# Altium footprint library Converter_DCDC.PcbLib: 115 footprints (part 5 of 8)
Each footprint in its own frame and in the unit in brackets; x right, y up, seen from the top. Pads: shape width x height; smd on the part's side, far side on the other; paste and mask are expansions set on the pad; w line width, h text height; cw(c..) or ccw(c..) is an arc to the next point about the centre after c.
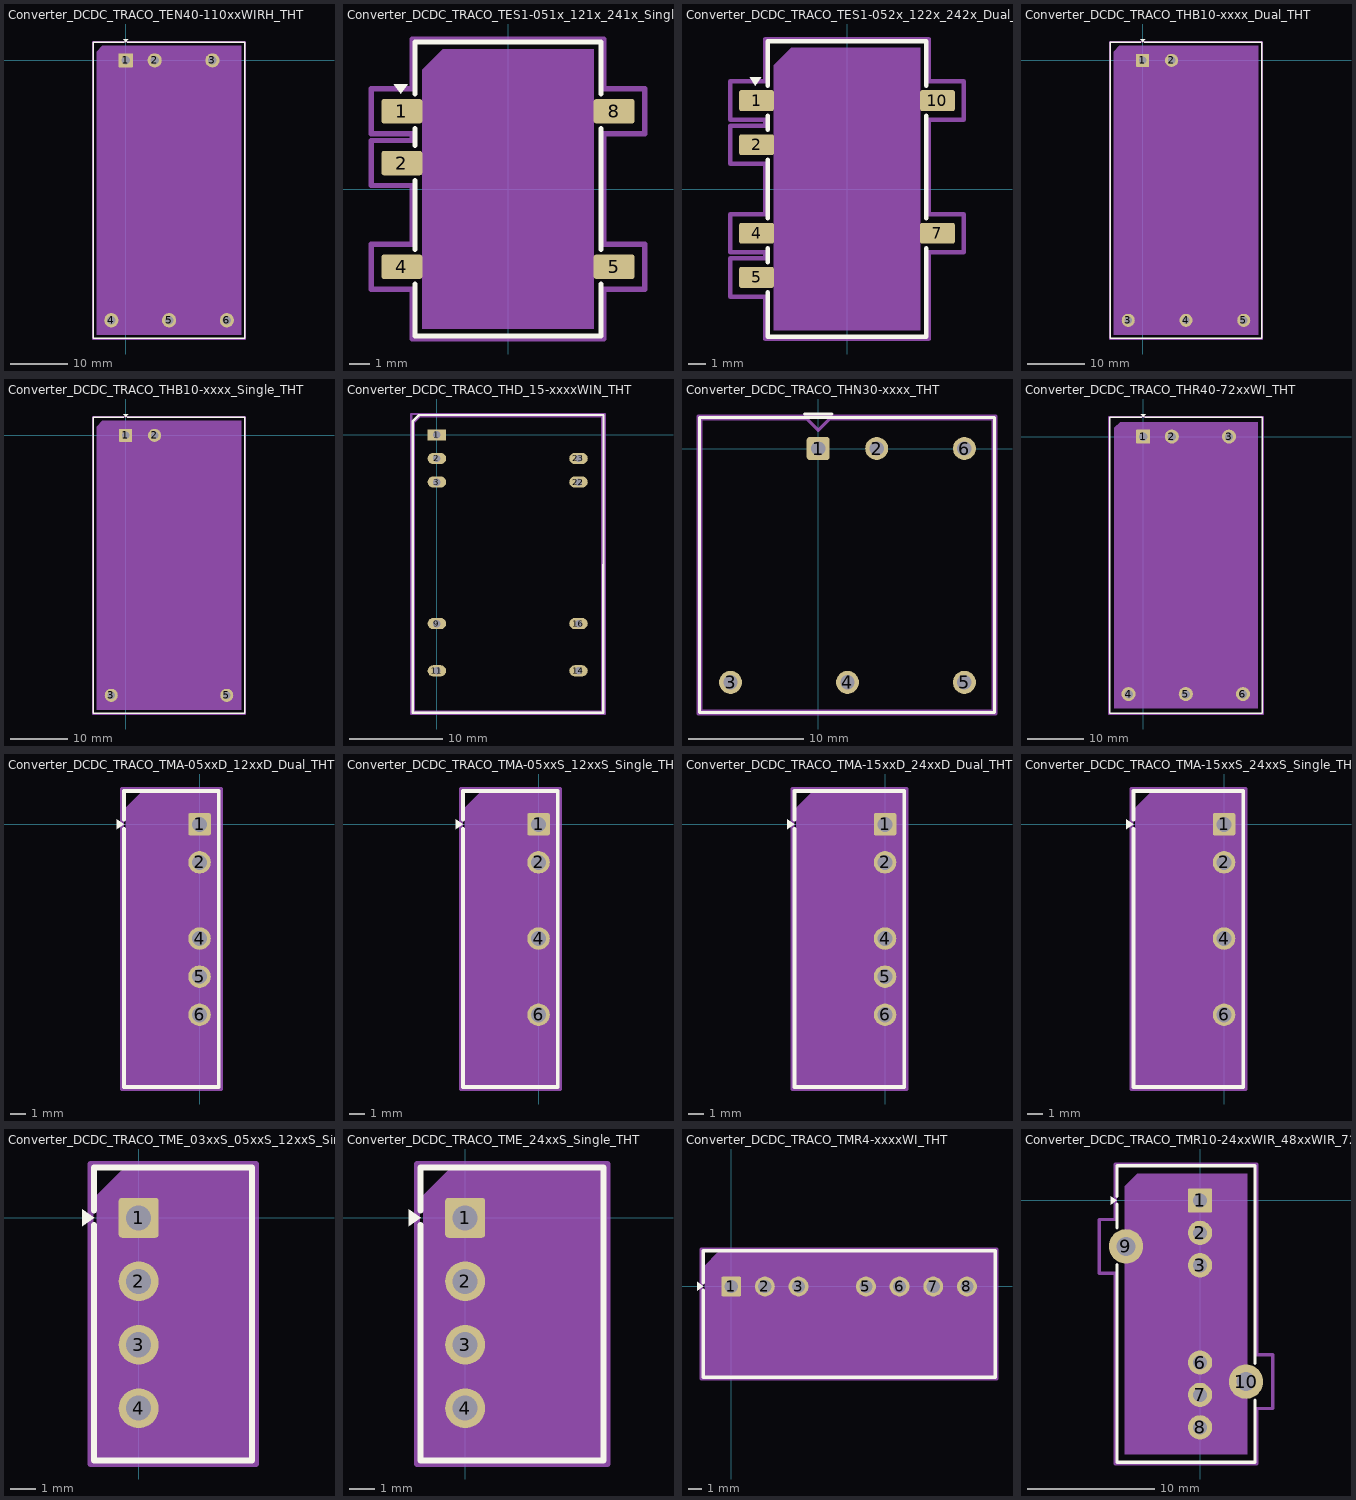
[diagram p4: the footprints below, top view; thin cyan lines are the x and y axes]

## Converter_DCDC_TRACO_TEN40-110xxWIRH_THT [mm]
pads (6):
  rrect10% 2.5x2.5 hole 1.5: 1(0,0)
  round 2.5 hole 1.5: 2(5.08,0) 3(15.24,0) 4(-2.54,-45.72) 5(7.62,-45.72) 6(17.78,-45.72)
F.SilkS:
  region: 0,3.15 -0.44,3.76 0.44,3.76
  lines w0.254: -0.296,3.15 -5.71,3.15 -5.71,-48.87 20.91,-48.87 20.91,3.15 0.296,3.15
Top Assembly:
  region: 20.3,-48.26 -5.1,-48.26 -5.1,1.54 -4.1,2.54 20.3,2.54
  text "'.Designator'" at 3.553,-23.7 h1
Top Courtyard:
  lines w0.254: -5.85,-49.01 21.05,-49.01 21.05,3.29 -5.85,3.29 -5.85,-49.01
Top Designator:
  text ".Designator" at -0.018,-23.196 h1.52

## Converter_DCDC_TRACO_TES1-051x_121x_241x_Single_SMD [mm]
pads (5):
  rrect21% 2x1.2 smd: 1(-5.2,3.81) 2(-5.2,1.27) 4(-5.2,-3.81) 5(5.2,-3.81) 8(5.2,3.81)
F.SilkS:
  region: -5.26,4.67 -5.6,5.14 -4.92,5.14
  lines w0.254: -4.56,-4.67 -4.56,-7.21 4.56,-7.21 4.56,-4.67 ; -4.56,-2.95 -4.56,0.41 ; -4.56,2.13 -4.56,2.95 ; -4.56,4.67 -4.56,7.21 4.56,7.21 4.56,4.67 ; 4.56,-2.95 4.56,2.95
Top Assembly:
  region: 4.2,-6.85 -4.2,-6.85 -4.2,5.85 -3.2,6.85 4.2,6.85
  text "'.Designator'" at -4.047,-0.84 h1
Top Courtyard:
  lines w0.254: -6.7,-4.91 -4.7,-4.91 -4.7,-7.35 4.7,-7.35 4.7,-4.91 6.7,-4.91 6.7,-2.71 4.7,-2.71 4.7,2.71 6.7,2.71 6.7,4.91 4.7,4.91 4.7,7.35 -4.7,7.35 -4.7,4.91 -6.7,4.91 -6.7,2.71 -4.7,2.71 -4.7,2.37 -6.7,2.37 -6.7,0.17 -4.7,0.17 -4.7,-2.71 -6.7,-2.71 -6.7,-4.91
Top Designator:
  text ".Designator" at -7.618,-0.508 h1.52

## Converter_DCDC_TRACO_TES1-052x_122x_242x_Dual_SMD [mm]
pads (6):
  rrect21% 2x1.2 smd: 1(-5.2,5.08) 2(-5.2,2.54) 4(-5.2,-2.54) 5(-5.2,-5.08) 7(5.2,-2.54) 10(5.2,5.08)
F.SilkS:
  region: -5.26,5.94 -5.6,6.41 -4.92,6.41
  lines w0.254: -4.56,-5.94 -4.56,-8.48 4.56,-8.48 4.56,-3.4 ; -4.56,-4.22 -4.56,-3.4 ; -4.56,-1.68 -4.56,1.68 ; -4.56,3.4 -4.56,4.22 ; -4.56,5.94 -4.56,8.48 4.56,8.48 4.56,5.94 ; 4.56,-1.68 4.56,4.22
Top Assembly:
  region: 4.2,-8.12 -4.2,-8.12 -4.2,7.12 -3.2,8.12 4.2,8.12
  text "'.Designator'" at -4.047,-0.84 h1
Top Courtyard:
  lines w0.254: -6.7,-6.18 -4.7,-6.18 -4.7,-8.62 4.7,-8.62 4.7,-3.64 6.7,-3.64 6.7,-1.44 4.7,-1.44 4.7,3.98 6.7,3.98 6.7,6.18 4.7,6.18 4.7,8.62 -4.7,8.62 -4.7,6.18 -6.7,6.18 -6.7,3.98 -4.7,3.98 -4.7,3.64 -6.7,3.64 -6.7,1.44 -4.7,1.44 -4.7,-1.44 -6.7,-1.44 -6.7,-3.64 -4.7,-3.64 -4.7,-3.98 -6.7,-3.98 -6.7,-6.18
Top Designator:
  text ".Designator" at -7.618,-0.508 h1.52

## Converter_DCDC_TRACO_THB10-xxxx_Dual_THT [mm]
pads (5):
  rrect11% 2.3x2.3 hole 1.3: 1(0,0)
  round 2.3 hole 1.3: 2(5.08,0) 3(-2.54,-45.72) 4(7.62,-45.72) 5(17.78,-45.72)
F.SilkS:
  region: 0,3.15 -0.44,3.76 0.44,3.76
  lines w0.254: -0.296,3.15 -5.69,3.15 -5.69,-48.87 20.93,-48.87 20.93,3.15 0.296,3.15
Top Assembly:
  region: 20.32,-48.26 -5.08,-48.26 -5.08,1.54 -4.08,2.54 20.32,2.54
  text "'.Designator'" at 3.573,-23.7 h1
Top Courtyard:
  lines w0.254: -5.83,-49.01 21.07,-49.01 21.07,3.29 -5.83,3.29 -5.83,-49.01
Top Designator:
  text ".Designator" at 0.002,-23.196 h1.52

## Converter_DCDC_TRACO_THB10-xxxx_Single_THT [mm]
pads (4):
  rrect11% 2.3x2.3 hole 1.3: 1(0,0)
  round 2.3 hole 1.3: 2(5.08,0) 3(-2.54,-45.72) 5(17.78,-45.72)
F.SilkS:
  region: 0,3.15 -0.44,3.76 0.44,3.76
  lines w0.254: -0.296,3.15 -5.69,3.15 -5.69,-48.87 20.93,-48.87 20.93,3.15 0.296,3.15
Top Assembly:
  region: 20.32,-48.26 -5.08,-48.26 -5.08,1.54 -4.08,2.54 20.32,2.54
  text "'.Designator'" at 3.573,-23.7 h1
Top Courtyard:
  lines w0.254: -5.83,-49.01 21.07,-49.01 21.07,3.29 -5.83,3.29 -5.83,-49.01
Top Designator:
  text ".Designator" at 0.002,-23.196 h1.52

## Converter_DCDC_TRACO_THD_15-xxxxWIN_THT [mm]
pads (9):
  rect 2x1.2 hole 0.8: 1(0,0)
  rrect100% 2x1.2 hole 0.8: 2(0,-2.54) 3(0,-5.08) 9(0,-20.32) 11(0,-25.4) 14(15.24,-25.4) 16(15.24,-20.32) 22(15.24,-5.08) 23(15.24,-2.54)
F.SilkS:
  lines w0.254: -2.62,-29.92 17.92,-29.93 17.93,2.14 -1.92,2.13 -2.62,1.43 -2.62,-29.92
Top Assembly:
  lines w0.254: -2.5,-29.8 17.8,-29.8 17.8,2 -1.8,2 -2.5,1.3 -2.5,-29.8
  text "'.Designator'" at 3.953,-13.04 h1
Top Courtyard:
  lines w0.254: -2.75,-30.05 18.05,-30.05 18.05,2.25 -2.75,2.25 -2.75,-30.05
Top Designator:
  text ".Designator" at 0.032,-14.408 h1.52

## Converter_DCDC_TRACO_THN30-xxxx_THT [mm]
pads (6):
  rrect25% 2x2 hole 1.24: 1(0,0)
  round 2 hole 1.24: 2(5.08,0) 3(-7.62,-20.32) 4(2.54,-20.32) 5(12.7,-20.32) 6(12.7,0)
F.SilkS:
  lines w0.254: -1.2,3 1.2,3 ; -10.31,-22.93 15.31,-22.93 15.31,2.69 -10.31,2.69 -10.31,-22.93
Top Assembly:
  lines w0.254: -10.2,-22.82 15.2,-22.82 15.2,2.58 1,2.58 0,1.58 -1,2.58 -10.2,2.58 -10.2,-22.82
  text "'.Designator'" at -1.507,-11 h1
Top Courtyard:
  lines w0.254: -10.45,-23.07 15.45,-23.07 15.45,2.83 -10.45,2.83 -10.45,-23.07
Top Designator:
  text ".Designator" at -5.118,-10.543 h1.52

## Converter_DCDC_TRACO_THR40-72xxWI_THT [mm]
pads (6):
  rrect10% 2.5x2.5 hole 1.5: 1(0,0)
  round 2.5 hole 1.5: 2(5.08,0) 3(15.24,0) 4(-2.6,-45.72) 5(7.56,-45.72) 6(17.72,-45.72)
F.SilkS:
  region: 0,3.4 -0.44,4.01 0.44,4.01
  lines w0.254: -0.296,3.4 -5.96,3.4 -5.96,-49.12 21.16,-49.12 21.16,3.4 0.296,3.4
Top Assembly:
  region: 20.3,-48.26 -5.1,-48.26 -5.1,1.54 -4.1,2.54 20.3,2.54
  text "'.Designator'" at 3.553,-23.7 h1
Top Courtyard:
  lines w0.254: -6.1,-49.26 21.3,-49.26 21.3,3.54 -6.1,3.54 -6.1,-49.26
Top Designator:
  text ".Designator" at -0.018,-23.196 h1.52

## Converter_DCDC_TRACO_TMA-05xxD_12xxD_Dual_THT [mm]
pads (5):
  rrect17% 1.5x1.5 hole 1: 1(0,0)
  round 1.5 hole 1: 2(0,-2.54) 4(0,-7.62) 5(0,-10.16) 6(0,-12.7)
F.SilkS:
  region: -5.035,0 -5.505,-0.34 -5.505,0.34
  lines w0.254: -5.035,-0.296 -5.035,-17.51 1.285,-17.51 1.285,2.21 -5.035,2.21 -5.035,0.296
Top Assembly:
  region: 1.175,-17.4 -4.925,-17.4 -4.925,1.1 -3.925,2.1 1.175,2.1
  text "'.Designator'" at -5.927,-8.49 h1
Top Courtyard:
  lines w0.254: -5.18,-17.65 1.43,-17.65 1.43,2.35 -5.18,2.35 -5.18,-17.65
Top Designator:
  text ".Designator" at -9.648,-8.158 h1.52

## Converter_DCDC_TRACO_TMA-05xxS_12xxS_Single_THT [mm]
pads (4):
  rrect17% 1.5x1.5 hole 1: 1(0,0)
  round 1.5 hole 1: 2(0,-2.54) 4(0,-7.62) 6(0,-12.7)
F.SilkS:
  region: -5.035,0 -5.505,-0.34 -5.505,0.34
  lines w0.254: -5.035,-0.296 -5.035,-17.51 1.285,-17.51 1.285,2.21 -5.035,2.21 -5.035,0.296
Top Assembly:
  region: 1.175,-17.4 -4.925,-17.4 -4.925,1.1 -3.925,2.1 1.175,2.1
  text "'.Designator'" at -5.927,-8.49 h1
Top Courtyard:
  lines w0.254: -5.18,-17.65 1.43,-17.65 1.43,2.35 -5.18,2.35 -5.18,-17.65
Top Designator:
  text ".Designator" at -9.648,-8.158 h1.52

## Converter_DCDC_TRACO_TMA-15xxD_24xxD_Dual_THT [mm]
pads (5):
  rrect17% 1.5x1.5 hole 1: 1(0,0)
  round 1.5 hole 1: 2(0,-2.54) 4(0,-7.62) 5(0,-10.16) 6(0,-12.7)
F.SilkS:
  region: -6.035,0 -6.505,-0.34 -6.505,0.34
  lines w0.254: -6.035,-0.296 -6.035,-17.51 1.285,-17.51 1.285,2.21 -6.035,2.21 -6.035,0.296
Top Assembly:
  region: 1.175,-17.4 -5.925,-17.4 -5.925,1.1 -4.925,2.1 1.175,2.1
  text "'.Designator'" at -6.427,-8.49 h1
Top Courtyard:
  lines w0.254: -6.18,-17.65 1.43,-17.65 1.43,2.35 -6.18,2.35 -6.18,-17.65
Top Designator:
  text ".Designator" at -10.127,-8.158 h1.52

## Converter_DCDC_TRACO_TMA-15xxS_24xxS_Single_THT [mm]
pads (4):
  rrect17% 1.5x1.5 hole 1: 1(0,0)
  round 1.5 hole 1: 2(0,-2.54) 4(0,-7.62) 6(0,-12.7)
F.SilkS:
  region: -6.035,0 -6.505,-0.34 -6.505,0.34
  lines w0.254: -6.035,-0.296 -6.035,-17.51 1.285,-17.51 1.285,2.21 -6.035,2.21 -6.035,0.296
Top Assembly:
  region: 1.175,-17.4 -5.925,-17.4 -5.925,1.1 -4.925,2.1 1.175,2.1
  text "'.Designator'" at -6.427,-8.49 h1
Top Courtyard:
  lines w0.254: -6.18,-17.65 1.43,-17.65 1.43,2.35 -6.18,2.35 -6.18,-17.65
Top Designator:
  text ".Designator" at -10.127,-8.158 h1.52

## Converter_DCDC_TRACO_TME_03xxS_05xxS_12xxS_Single_THT [mm]
pads (4):
  rrect16% 1.6x1.6 hole 1: 1(0,0)
  round 1.6 hole 1: 2(0,-2.54) 3(0,-5.08) 4(0,-7.62)
F.SilkS:
  region: -1.785,0 -2.255,-0.34 -2.255,0.34
  lines w0.254: -1.785,-0.296 -1.785,-9.71 4.535,-9.71 4.535,2.01 -1.785,2.01 -1.785,0.296
Top Assembly:
  region: 4.425,-9.6 -1.675,-9.6 -1.675,0.9 -0.675,1.9 4.425,1.9
  text "'.Designator'" at -2.667,-4.69 h1
Top Courtyard:
  lines w0.254: -1.93,-9.85 4.68,-9.85 4.68,2.15 -1.93,2.15 -1.93,-9.85
Top Designator:
  text ".Designator" at -6.388,-4.358 h1.52

## Converter_DCDC_TRACO_TME_24xxS_Single_THT [mm]
pads (4):
  rrect16% 1.6x1.6 hole 1: 1(0,0)
  round 1.6 hole 1: 2(0,-2.54) 3(0,-5.08) 4(0,-7.62)
F.SilkS:
  region: -1.785,0 -2.255,-0.34 -2.255,0.34
  lines w0.254: -1.785,-0.296 -1.785,-9.71 5.535,-9.71 5.535,2.01 -1.785,2.01 -1.785,0.296
Top Assembly:
  region: 5.425,-9.6 -1.675,-9.6 -1.675,0.9 -0.675,1.9 5.425,1.9
  text "'.Designator'" at -2.167,-4.69 h1
Top Courtyard:
  lines w0.254: -1.93,-9.85 5.68,-9.85 5.68,2.15 -1.93,2.15 -1.93,-9.85
Top Designator:
  text ".Designator" at -5.872,-4.358 h1.52

## Converter_DCDC_TRACO_TMR4-xxxxWI_THT [mm]
pads (7):
  rrect17% 1.5x1.5 hole 1: 1(0,0)
  round 1.5 hole 1: 2(2.54,0) 3(5.08,0) 5(10.16,0) 6(12.7,0) 7(15.24,0) 8(17.78,0)
F.SilkS:
  region: -2.11,0 -2.58,-0.34 -2.58,0.34
  lines w0.254: -2.11,-0.296 -2.11,-6.835 19.91,-6.835 19.91,2.685 -2.11,2.685 -2.11,0.296
Top Assembly:
  region: 19.8,-6.725 -2,-6.725 -2,1.575 -1,2.575 19.8,2.575
  text "'.Designator'" at 4.853,-2.92 h1
Top Courtyard:
  lines w0.254: -2.25,-6.98 20.05,-6.98 20.05,2.83 -2.25,2.83 -2.25,-6.98
Top Designator:
  text ".Designator" at 1.181,-2.583 h1.52

## Converter_DCDC_TRACO_TMR10-24xxWIR_48xxWIR_72xxWIR_THT [mm]
pads (8):
  rrect13% 1.9x1.9 hole 1.1: 1(0,0)
  round 1.9 hole 1.1: 2(0,-2.54) 3(0,-5.08) 6(0,-12.7) 7(0,-15.24) 8(0,-17.78)
  round 2.7 hole 1.5: 9(-5.8,-3.6) 10(3.6,-14.2)
F.SilkS:
  region: -6.51,0 -6.98,-0.34 -6.98,0.34
  lines w0.254: -6.51,-5.045 -6.51,-20.51 4.31,-20.51 4.31,-15.645 ; -6.51,-2.155 -6.51,-0.296 ; -6.51,0.296 -6.51,2.71 4.31,2.71 4.31,-12.755
Top Assembly:
  region: 3.7,-19.9 -5.9,-19.9 -5.9,1.1 -4.9,2.1 3.7,2.1
  text "'.Designator'" at -5.147,-9.74 h1
Top Courtyard:
  lines w0.254: -7.9,-5.7 -6.65,-5.7 -6.65,-20.65 4.45,-20.65 4.45,-16.3 5.7,-16.3 5.7,-12.1 4.45,-12.1 4.45,2.85 -6.65,2.85 -6.65,-1.5 -7.9,-1.5 -7.9,-5.7
Top Designator:
  text ".Designator" at -8.718,-9.408 h1.52